# EAGLE library part 3.3VCONV (library 3.3V Converter)
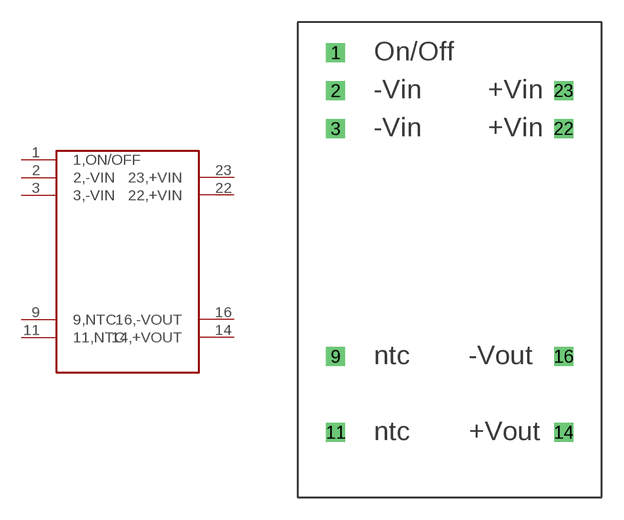
[diagram p0: symbol with the pads of 3.3VCONV; footprint 3.3VCONV]

Designator prefix -

## 3.3VCONV  [3.3VCONV]
1  1,ON/OFF
2  2,-VIN
3  3,-VIN
9  9,NTC
11  11,NTC
14  14,+VOUT
16  16,-VOUT
22  22,+VIN
23  23,+VIN

## Footprint 3.3VCONV (pad centres in mm)
drill 0.762 square: 1 2.54,29.718; 2 2.54,27.178; 3 2.54,24.638; 9 2.54,9.398; 11 2.54,4.318; 14 17.78,4.318; 16 17.78,9.398; 22 17.78,24.638; 23 17.78,27.178